# Altium schematic symbol library MECH,Heatsink,Clip,OMNI-UC.SchLib: 1 symbol
Pins are listed as number, name and electrical type; pins without a type are passive.

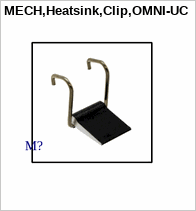
[diagram p0: symbol MECH,Heatsink,Clip,OMNI-UC]

## MECH,Heatsink,Clip,OMNI-UC
designator M?  (mechanical)